# EAGLE library part 6HM5 (library wheat)
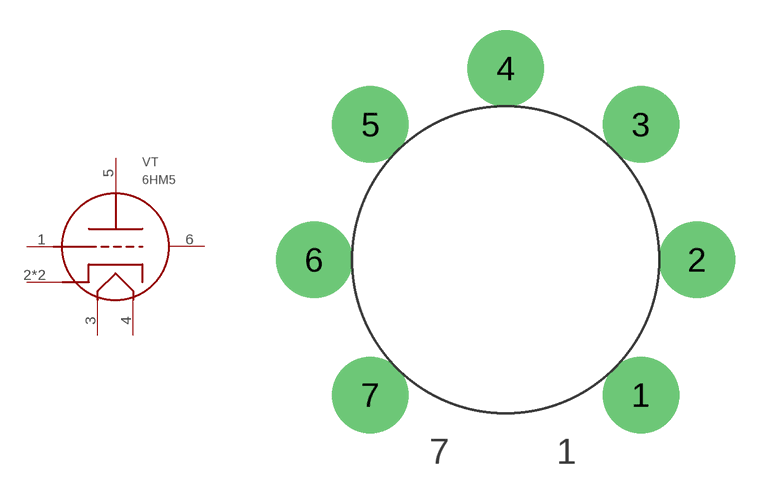
[diagram p273: symbol with the pads of MINI7_PCB; footprint MINI7_PCB]

Designator prefix VT

## 6HM5  [MINI7_PCB]
1  G  pas
2  K  pas
3  H1  pas
4  H2  pas
5  A  pas
6  S
7  K  pas

## Footprint MINI7_PCB (pad centres in mm)
TUBE SOCKET, 7-PIN MINI, .75 CIRCLE
drill 1.93 pad 3.81: 1 6.731,-6.731; 2 9.525,0; 3 6.731,6.731; 4 0,9.525; 5 -6.731,6.731; 6 -9.525,0; 7 -6.731,-6.731